# Altium footprint library CanSat1PcbLib.PcbLib: 17 footprints (part 2 of 2)
Each footprint in its own frame and in the unit in brackets; x right, y up, seen from the top. Pads: shape width x height; smd on the part's side, far side on the other; paste and mask are expansions set on the pad; w line width, h text height; cw(c..) or ccw(c..) is an arc to the next point about the centre after c.
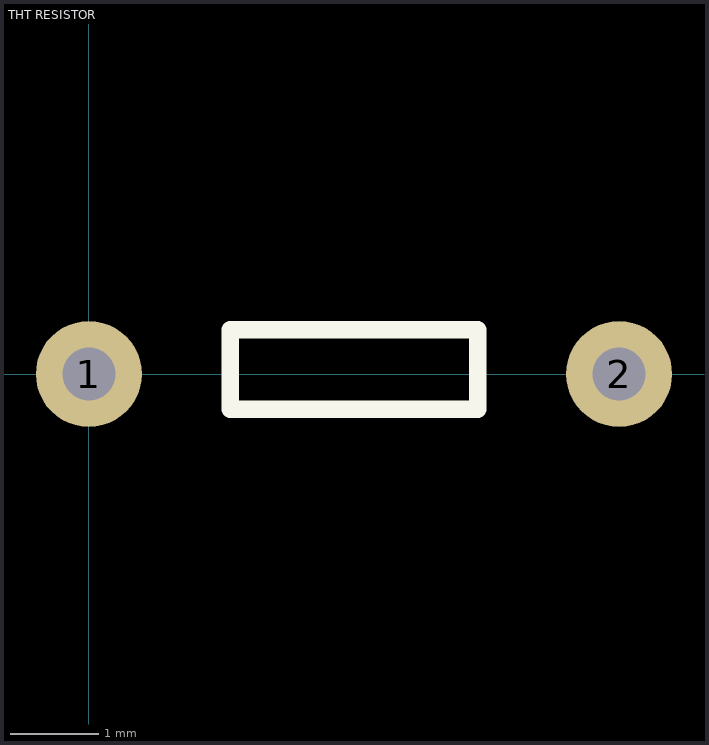
[diagram p1: the footprint, top view; thin cyan lines are the x and y axes]

## THT RESISTOR [mm]
pads (2):
  round 1.2 hole 0.6: 1(0,0) 2(6,0)
Top Overlay:
  lines w0.2: 1.6,-0.4 4.4,-0.4 4.4,0 4.4,0.5 1.6,0.5 1.6,-0.4
  text ".Designator" at 1.4,1 h0.3